# EAGLE library part MC1496DR2G (library Ham Radio)
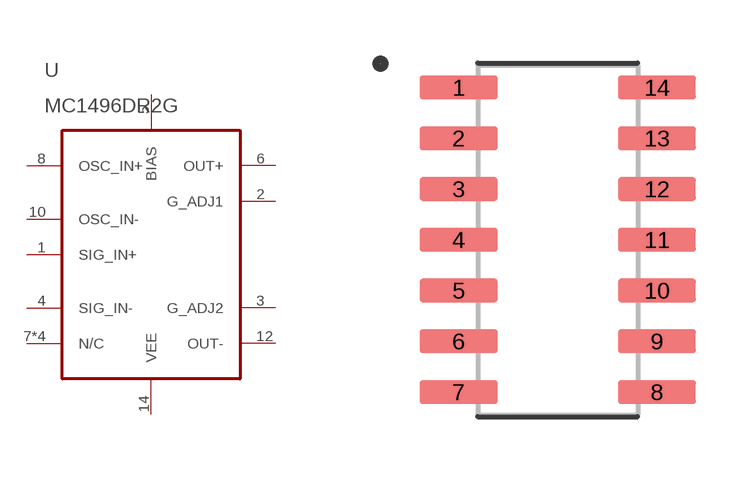
[diagram p1: symbol with the pads of SOIC127P600X175-14N; footprint SOIC127P600X175-14N]

Designator prefix U

## MC1496DR2G (AVAILABILITY: Unavailable; DESCRIPTION: RF IC Modulator/Demodulator FM 300MHz 14-SOIC; MF: ON Semiconductor; MP: MC1496DR2G; PACKAGE: SOIC-14 ON Semiconductor; PRICE: None)  [SOIC127P600X175-14N]
1  SIG_IN+  in
2  G_ADJ1  in
3  G_ADJ2  in
4  SIG_IN-  in
5  BIAS  in
6  OUT+  out
7  N/C
8  OSC_IN+  in
9  N/C
10  OSC_IN-  in
11  N/C
12  OUT-
13  N/C
14  VEE  pwr

## Footprint SOIC127P600X175-14N (pad centres in mm)
smd 1.95 x 0.59: 1 -2.48,3.81; 2 -2.48,2.54; 3 -2.48,1.27; 4 -2.48,0; 5 -2.48,-1.27; 6 -2.48,-2.54; 7 -2.48,-3.81; 8 2.48,-3.81; 9 2.48,-2.54; 10 2.48,-1.27; 11 2.48,0; 12 2.48,1.27; 13 2.48,2.54; 14 2.48,3.81